# Altium schematic symbol library LARS_409_MK.SCHLIB: 13 symbols
Pins are listed as number, name and electrical type; pins without a type are passive.

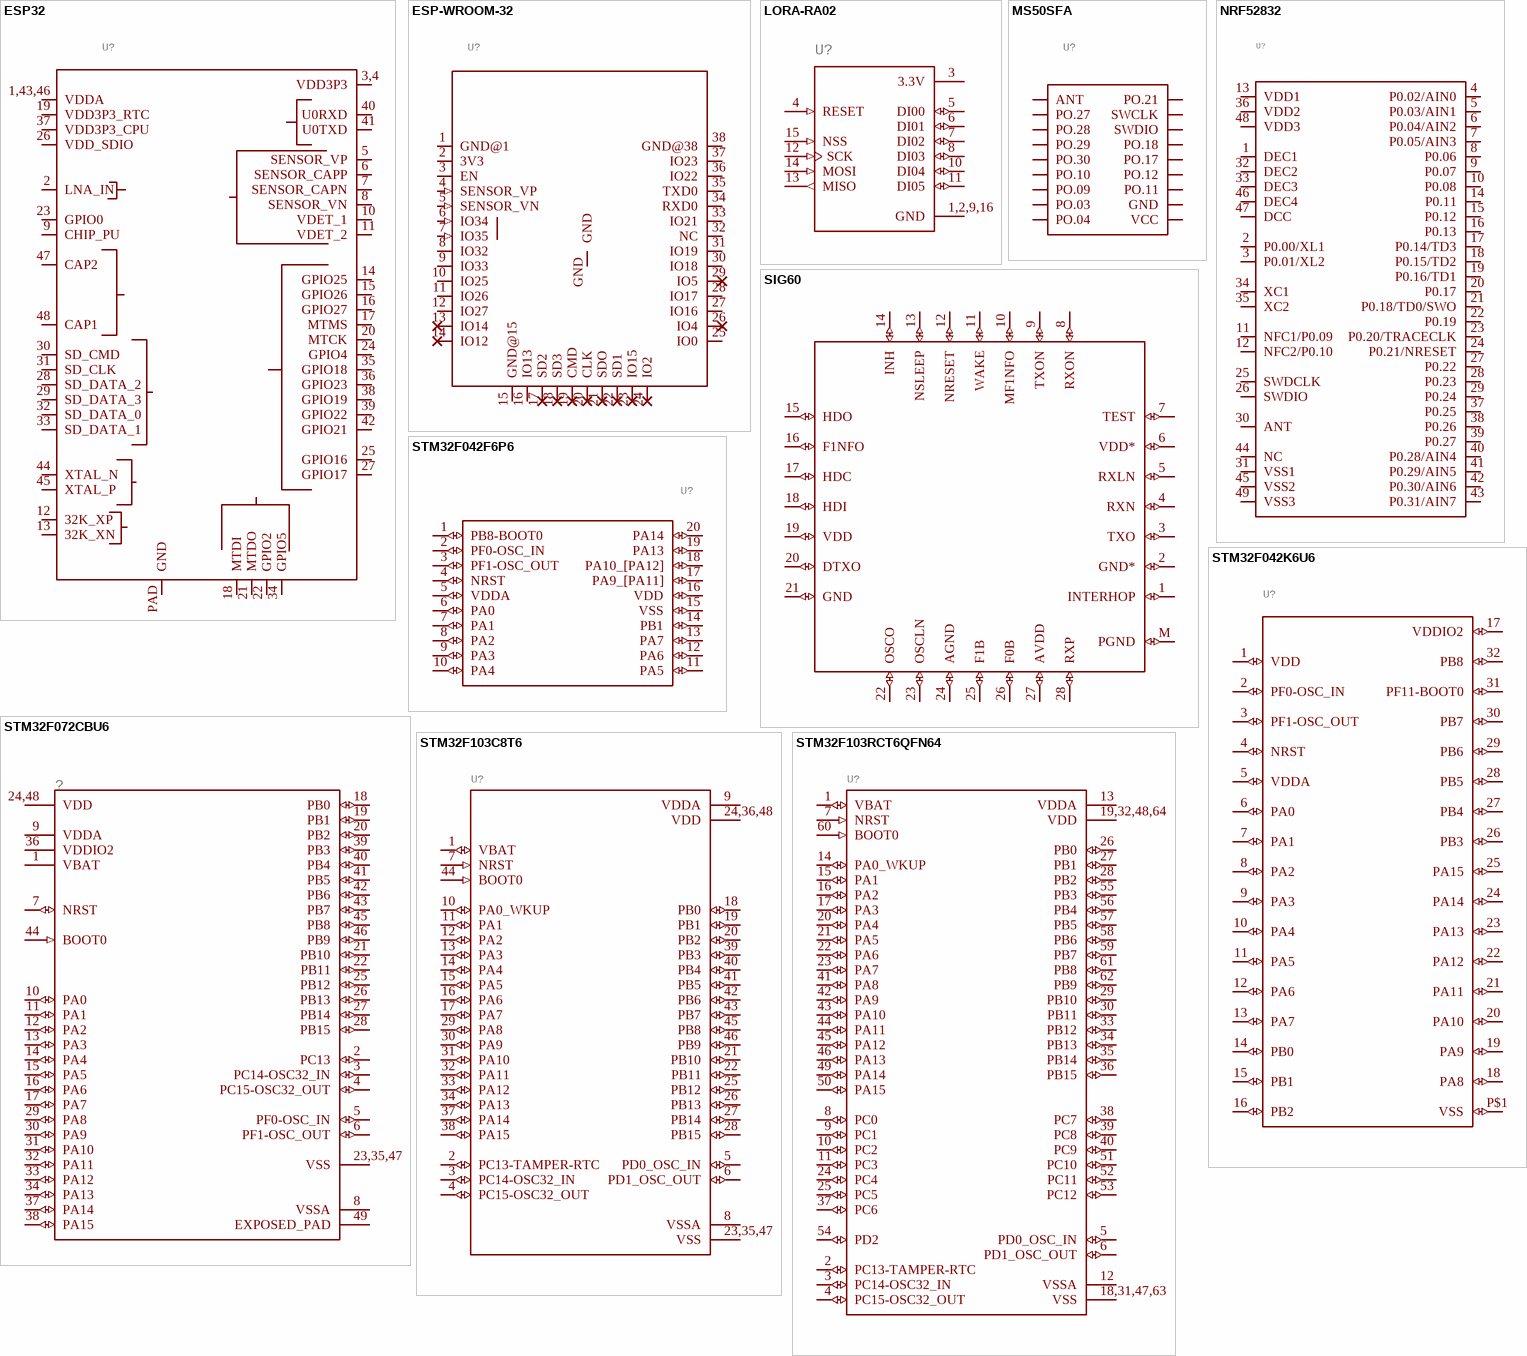
[diagram p0: symbols ESP32 to STM32F103RCT6QFN64]

## ESP32
designator U?
GateName_1: G$1; SymbolName_1: ESP32-D0WD; DeviceSetName: ESP32; LibraryName: LARS_409_MK; Package: QFN48(5X5MM)
footprint QFN48(5X5MM)
pins: 1,43,46 VDDA (io), 2 LNA_IN (io), 3,4 VDD3P3 (io), 5 SENSOR_VP (io), 6 SENSOR_CAPP (io), 7 SENSOR_CAPN (io), 8 SENSOR_VN (io), 9 CHIP_PU (io), 10 VDET_1 (io), 11 VDET_2 (io), 12 32K_XP (io), 13 32K_XN (io), 14 GPIO25 (io), 15 GPIO26 (io), 16 GPIO27 (io), 17 MTMS (io), 18 MTDI (io), 19 VDD3P3_RTC (io), 20 MTCK (io), 21 MTDO (io), 22 GPIO2 (io), 23 GPIO0 (io), 24 GPIO4 (io), 25 GPIO16 (io), 26 VDD_SDIO (io), 27 GPIO17 (io), 28 SD_DATA_2 (io), 29 SD_DATA_3 (io), 30 SD_CMD (io), 31 SD_CLK (io), 32 SD_DATA_0 (io), 33 SD_DATA_1 (io), 34 GPIO5 (io), 35 GPIO18 (io), 36 GPIO23 (io), 37 VDD3P3_CPU (io), 38 GPIO19 (io), 39 GPIO22 (io), 40 U0RXD (io), 41 U0TXD (io), 42 GPIO21 (io), 44 XTAL_N (io), 45 XTAL_P (io), 47 CAP2 (io), 48 CAP1 (io), PAD GND (io)

## ESP-WROOM-32
designator U?
GateName_1: G$1; SymbolName_1: ESP32; DeviceSetName: ESP-WROOM-32; LibraryName: LARS_409_MK; Package: ESP-WROOM-32
footprint ESP-WROOM-32
pins: 1 GND@1 (io), 2 3V3 (io), 3 EN (io), 4 SENSOR_VP (in), 5 SENSOR_VN (in), 6 IO34 (in), 7 IO35 (in), 8 IO32 (io), 9 IO33 (io), 10 IO25 (io), 11 IO26 (io), 12 IO27 (io), 13 IO14 (io), 14 IO12 (io), 15 GND@15 (io), 16 IO13 (io), 17 SD2 (io), 18 SD3 (io), 19 CMD (io), 20 CLK (io), 21 SDO (io), 22 SD1 (io), 23 IO15 (io), 24 IO2 (io), 25 IO0 (io), 26 IO4 (io), 27 IO16 (io), 28 IO17 (io), 29 IO5 (io), 30 IO18 (io), 31 IO19 (io), 32 NC (io), 33 IO21 (io), 34 RXD0 (io), 35 TXD0 (io), 36 IO22 (io), 37 IO23 (io), 38 GND@38 (io), GND (io)

## LORA-RA02
designator U?
GateName_1: G$1; SymbolName_1: LORA-RA2; DeviceSetName: LORA-RA02; LibraryName: LARS_409_MK; Package: LORA_RA-02
footprint LORA_RA-02
pins: 1,2,9,16 GND (power), 3 3.3V (power), 4 RESET (in), 5 DI00 (io), 6 DI01 (io), 7 DI02 (io), 8 DI03 (io), 10 DI04 (io), 11 DI05 (io), 12 SCK (in), 13 MISO (out), 14 MOSI (in), 15 NSS (in)

## MS50SFA
designator U?
GateName_1: G$1; SymbolName_1: MS50SFA; LibraryName: LARS_409_MK; DeviceSetName: MS50SFA; Package: 15.8X12.0X2.0MM
footprint 15.8X12.0X2.0MM
pins: 1 ANT (io), 2 PO.27 (io), 3 PO.28 (io), 4 PO.29 (io), 5 PO.30 (io), 6 PO.10 (io), 7 PO.09 (io), 8 PO.03 (io), 9 PO.04 (io), 10 VCC (io), 11,PAD GND (io), 12 PO.11 (io), 13 PO.12 (io), 14 PO.17 (io), 15 PO.18 (io), 16 SWDIO (io), 17 SWCLK (io), 18 PO.21 (io)

## NRF52832
designator U?
GateName_1: G$1; SymbolName_1: NRF52832; LibraryName: LARS_409_MK; DeviceSetName: NRF52832; Package: QFN48(6X6)
footprint QFN48(6X6)
pins: 1 DEC1 (io), 2 P0.00/XL1 (io), 3 P0.01/XL2 (io), 4 P0.02/AIN0 (io), 5 P0.03/AIN1 (io), 6 P0.04/AIN2 (io), 7 P0.05/AIN3 (io), 8 P0.06 (io), 9 P0.07 (io), 10 P0.08 (io), 11 NFC1/P0.09 (io), 12 NFC2/P0.10 (io), 13 VDD1 (io), 14 P0.11 (io), 15 P0.12 (io), 16 P0.13 (io), 17 P0.14/TD3 (io), 18 P0.15/TD2 (io), 19 P0.16/TD1 (io), 20 P0.17 (io), 21 P0.18/TD0/SWO (io), 22 P0.19 (io), 23 P0.20/TRACECLK (io), 24 P0.21/NRESET (io), 25 SWDCLK (io), 26 SWDIO (io), 27 P0.22 (io), 28 P0.23 (io), 29 P0.24 (io), 30 ANT (io), 31 VSS1 (io), 32 DEC2 (io), 33 DEC3 (io), 34 XC1 (io), 35 XC2 (io), 36 VDD2 (io), 37 P0.25 (io), 38 P0.26 (io), 39 P0.27 (io), 40 P0.28/AIN4 (io), 41 P0.29/AIN5 (io), 42 P0.30/AIN6 (io), 43 P0.31/AIN7 (io), 44 NC (io), 45 VSS2 (io), 46 DEC4 (io), 47 DCC (io), 48 VDD3 (io), 49 VSS3 (io)

## SIG60
designator U?
GateName_1: G$1; SymbolName_1: SIG60; LibraryName: LARS_409_MK; DeviceSetName: SIG60; Package: QFN28
footprint QFN28
pins: 1 INTERHOP (io), 2 GND* (io), 3 TXO (io), 4 RXN (io), 5 RXLN (io), 6 VDD* (io), 7 TEST (io), 8 RXON (io), 9 TXON (io), 10 MF1NFO (io), 11 WAKE (io), 12 NRESET (io), 13 NSLEEP (io), 14 INH (io), 15 HDO (io), 16 F1NFO (io), 17 HDC (io), 18 HDI (io), 19 VDD (io), 20 DTXO (io), 21 GND (io), 22 OSCO (io), 23 OSCLN (io), 24 AGND (io), 25 F1B (io), 26 F0B (io), 27 AVDD (io), 28 RXP (io), M PGND (io)

## STM32F042F6P6
designator U?
GateName_1: G$1; SymbolName_1: STM32F042F6P6; LibraryName: LARS_409_MK; DeviceSetName: STM32F042F6P6; Package: SOP65P640X120-20N
footprint SOP65P640X120-20N
pins: 1 PB8-BOOT0 (io), 2 PF0-OSC_IN (io), 3 PF1-OSC_OUT (io), 4 NRST (io), 5 VDDA (io), 6 PA0 (io), 7 PA1 (io), 8 PA2 (io), 9 PA3 (io), 10 PA4 (io), 11 PA5 (io), 12 PA6 (io), 13 PA7 (io), 14 PB1 (io), 15 VSS (io), 16 VDD (io), 17 PA9_[PA11] (io), 18 PA10_[PA12] (io), 19 PA13 (io), 20 PA14 (io)

## STM32F042K6U6
designator U?
GateName_1: G$1; SymbolName_1: STM32F042K6U6; LibraryName: LARS_409_MK; DeviceSetName: STM32F042K6U6; Package: QFN50P500X500X60-32N
footprint QFN50P500X500X60-32N
pins: 1 VDD (io), 2 PF0-OSC_IN (io), 3 PF1-OSC_OUT (io), 4 NRST (io), 5 VDDA (io), 6 PA0 (io), 7 PA1 (io), 8 PA2 (io), 9 PA3 (io), 10 PA4 (io), 11 PA5 (io), 12 PA6 (io), 13 PA7 (io), 14 PB0 (io), 15 PB1 (io), 16 PB2 (io), 17 VDDIO2 (io), 18 PA8 (io), 19 PA9 (io), 20 PA10 (io), 21 PA11 (io), 22 PA12 (io), 23 PA13 (io), 24 PA14 (io), 25 PA15 (io), 26 PB3 (io), 27 PB4 (io), 28 PB5 (io), 29 PB6 (io), 30 PB7 (io), 31 PF11-BOOT0 (io), 32 PB8 (io), P$1 VSS (io)

## STM32F072CBU6
designator ?
GateName_1: G$1; SymbolName_1: STM32F072CBU6; LibraryName: LARS_409_MK; DeviceSetName: STM32F072CBU6; Package: STM32F072CBU6
footprint STM32F072CBU6
pins: 1 VBAT (power), 2 PC13 (io), 3 PC14-OSC32_IN (io), 4 PC15-OSC32_OUT (io), 5 PF0-OSC_IN (io), 6 PF1-OSC_OUT (io), 7 NRST (io), 8 VSSA (power), 9 VDDA (power), 10 PA0 (io), 11 PA1 (io), 12 PA2 (io), 13 PA3 (io), 14 PA4 (io), 15 PA5 (io), 16 PA6 (io), 17 PA7 (io), 18 PB0 (io), 19 PB1 (io), 20 PB2 (io), 21 PB10 (io), 22 PB11 (io), 23,35,47 VSS (power), 24,48 VDD (power), 25 PB12 (io), 26 PB13 (io), 27 PB14 (io), 28 PB15 (io), 29 PA8 (io), 30 PA9 (io), 31 PA10 (io), 32 PA11 (io), 33 PA12 (io), 34 PA13 (io), 36 VDDIO2 (power), 37 PA14 (io), 38 PA15 (io), 39 PB3 (io), 40 PB4 (io), 41 PB5 (io), 42 PB6 (io), 43 PB7 (io), 44 BOOT0 (in), 45 PB8 (io), 46 PB9 (io), 49 EXPOSED_PAD (power)

## STM32F103C8T6
designator U?
GateName_1: G$1; SymbolName_1: STM32F103C8T6; LibraryName: LARS_409_MK; DeviceSetName: STM32F103C8T6; Package: QFP50P900X900X160-48N
footprint QFP50P900X900X160-48N
pins: 1 VBAT (io), 2 PC13-TAMPER-RTC (io), 3 PC14-OSC32_IN (io), 4 PC15-OSC32_OUT (io), 5 PD0_OSC_IN (io), 6 PD1_OSC_OUT (io), 7 NRST (in), 8 VSSA (power), 9 VDDA (power), 10 PA0_WKUP (io), 11 PA1 (io), 12 PA2 (io), 13 PA3 (io), 14 PA4 (io), 15 PA5 (io), 16 PA6 (io), 17 PA7 (io), 18 PB0 (io), 19 PB1 (io), 20 PB2 (io), 21 PB10 (io), 22 PB11 (io), 23,35,47 VSS (power), 24,36,48 VDD (power), 25 PB12 (io), 26 PB13 (io), 27 PB14 (io), 28 PB15 (io), 29 PA8 (io), 30 PA9 (io), 31 PA10 (io), 32 PA11 (io), 33 PA12 (io), 34 PA13 (io), 37 PA14 (io), 38 PA15 (io), 39 PB3 (io), 40 PB4 (io), 41 PB5 (io), 42 PB6 (io), 43 PB7 (io), 44 BOOT0 (in), 45 PB8 (io), 46 PB9 (io)

## STM32F103RCT6QFN64
designator U?
GateName_1: G$1; SymbolName_1: STM32F103RCT6; DeviceName: QFN64; LibraryName: LARS_409_MK; DeviceSetName: STM32F103RCT6; Package: QFP50P1200X1200X160-64N
footprint QFP50P1200X1200X160-64N
pins: 1 VBAT (io), 2 PC13-TAMPER-RTC (io), 3 PC14-OSC32_IN (io), 4 PC15-OSC32_OUT (io), 5 PD0_OSC_IN (io), 6 PD1_OSC_OUT (io), 7 NRST (in), 8 PC0 (io), 9 PC1 (io), 10 PC2 (io), 11 PC3 (io), 12 VSSA (power), 13 VDDA (power), 14 PA0_WKUP (io), 15 PA1 (io), 16 PA2 (io), 17 PA3 (io), 18,31,47,63 VSS (power), 19,32,48,64 VDD (power), 20 PA4 (io), 21 PA5 (io), 22 PA6 (io), 23 PA7 (io), 24 PC4 (io), 25 PC5 (io), 26 PB0 (io), 27 PB1 (io), 28 PB2 (io), 29 PB10 (io), 30 PB11 (io), 33 PB12 (io), 34 PB13 (io), 35 PB14 (io), 36 PB15 (io), 37 PC6 (io), 38 PC7 (io), 39 PC8 (io), 40 PC9 (io), 41 PA8 (io), 42 PA9 (io), 43 PA10 (io), 44 PA11 (io), 45 PA12 (io), 46 PA13 (io), 49 PA14 (io), 50 PA15 (io), 51 PC10 (io), 52 PC11 (io), 53 PC12 (io), 54 PD2 (io), 55 PB3 (io), 56 PB4 (io), 57 PB5 (io), 58 PB6 (io), 59 PB7 (io), 60 BOOT0 (in), 61 PB8 (io), 62 PB9 (io)

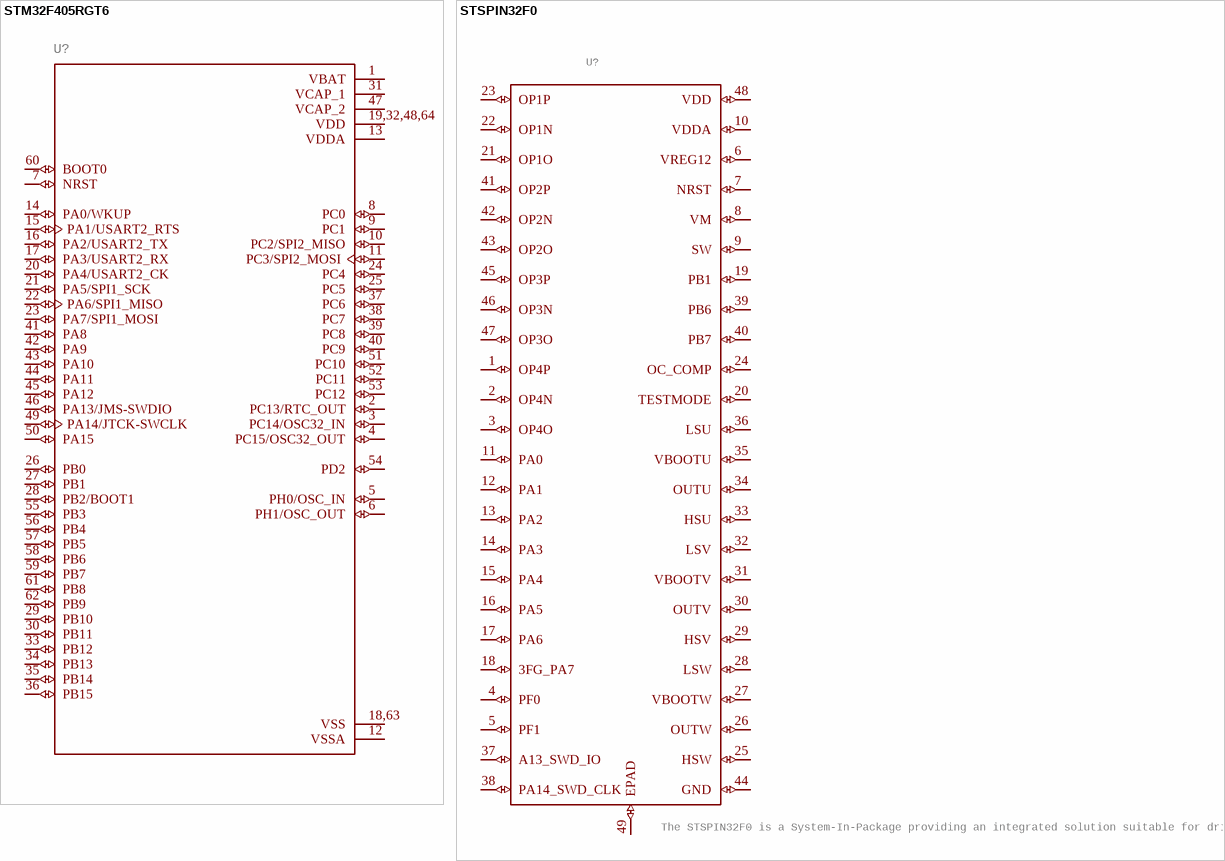
[diagram p1: symbols STM32F405RGT6 to STSPIN32F0]

## STM32F405RGT6
designator U?
GateName_1: G$1; SymbolName_1: STM32F405RGT6; LibraryName: LARS_409_MK; DeviceSetName: STM32F405RGT6; Package: QFP50P1200X1200X160-64N
footprint QFP50P1200X1200X160-64N
pins: 1 VBAT (power), 2 PC13/RTC_OUT (io), 3 PC14/OSC32_IN (io), 4 PC15/OSC32_OUT (io), 5 PH0/OSC_IN (io), 6 PH1/OSC_OUT (io), 7 NRST (io), 8 PC0 (io), 9 PC1 (io), 10 PC2/SPI2_MISO (io), 11 PC3/SPI2_MOSI (io), 12 VSSA (power), 13 VDDA (power), 14 PA0/WKUP (io), 15 PA1/USART2_RTS (io), 16 PA2/USART2_TX (io), 17 PA3/USART2_RX (io), 18,63 VSS (power), 19,32,48,64 VDD (power), 20 PA4/USART2_CK (io), 21 PA5/SPI1_SCK (io), 22 PA6/SPI1_MISO (io), 23 PA7/SPI1_MOSI (io), 24 PC4 (io), 25 PC5 (io), 26 PB0 (io), 27 PB1 (io), 28 PB2/BOOT1 (io), 29 PB10 (io), 30 PB11 (io), 31 VCAP_1 (power), 33 PB12 (io), 34 PB13 (io), 35 PB14 (io), 36 PB15 (io), 37 PC6 (io), 38 PC7 (io), 39 PC8 (io), 40 PC9 (io), 41 PA8 (io), 42 PA9 (io), 43 PA10 (io), 44 PA11 (io), 45 PA12 (io), 46 PA13/JMS-SWDIO (io), 47 VCAP_2 (power), 49 PA14/JTCK-SWCLK (io), 50 PA15 (io), 51 PC10 (io), 52 PC11 (io), 53 PC12 (io), 54 PD2 (io), 55 PB3 (io), 56 PB4 (io), 57 PB5 (io), 58 PB6 (io), 59 PB7 (io), 60 BOOT0 (io), 61 PB8 (io), 62 PB9 (io)

## STSPIN32F0
designator U?, comment The STSPIN32F0 is a System-In-Package providing an integrated solution suitable for driving three-phase BLDC motors using different driving modes.
GateName_1: STSPIN32$1; SymbolName_1: STSPIN32F0; LibraryName: LARS_409_MK; DeviceSetName: STSPIN32F0; Package: QFN48
footprint QFN48
pins: 1 OP4P (io), 2 OP4N (io), 3 OP4O (io), 4 PF0 (io), 5 PF1 (io), 6 VREG12 (io), 7 NRST (io), 8 VM (io), 9 SW (io), 10 VDDA (io), 11 PA0 (io), 12 PA1 (io), 13 PA2 (io), 14 PA3 (io), 15 PA4 (io), 16 PA5 (io), 17 PA6 (io), 18 3FG_PA7 (io), 19 PB1 (io), 20 TESTMODE (io), 21 OP1O (io), 22 OP1N (io), 23 OP1P (io), 24 OC_COMP (io), 25 HSW (io), 26 OUTW (io), 27 VBOOTW (io), 28 LSW (io), 29 HSV (io), 30 OUTV (io), 31 VBOOTV (io), 32 LSV (io), 33 HSU (io), 34 OUTU (io), 35 VBOOTU (io), 36 LSU (io), 37 A13_SWD_IO (io), 38 PA14_SWD_CLK (io), 39 PB6 (io), 40 PB7 (io), 41 OP2P (io), 42 OP2N (io), 43 OP2O (io), 44 GND (io), 45 OP3P (io), 46 OP3N (io), 47 OP3O (io), 48 VDD (io), 49 EPAD (io)